# Altium footprint library Connector Footprints.PcbLib: 89 footprints (part 3 of 6)
Each footprint in its own frame and in the unit in brackets; x right, y up, seen from the top. Pads: shape width x height; smd on the part's side, far side on the other; paste and mask are expansions set on the pad; w line width, h text height; cw(c..) or ccw(c..) is an arc to the next point about the centre after c.
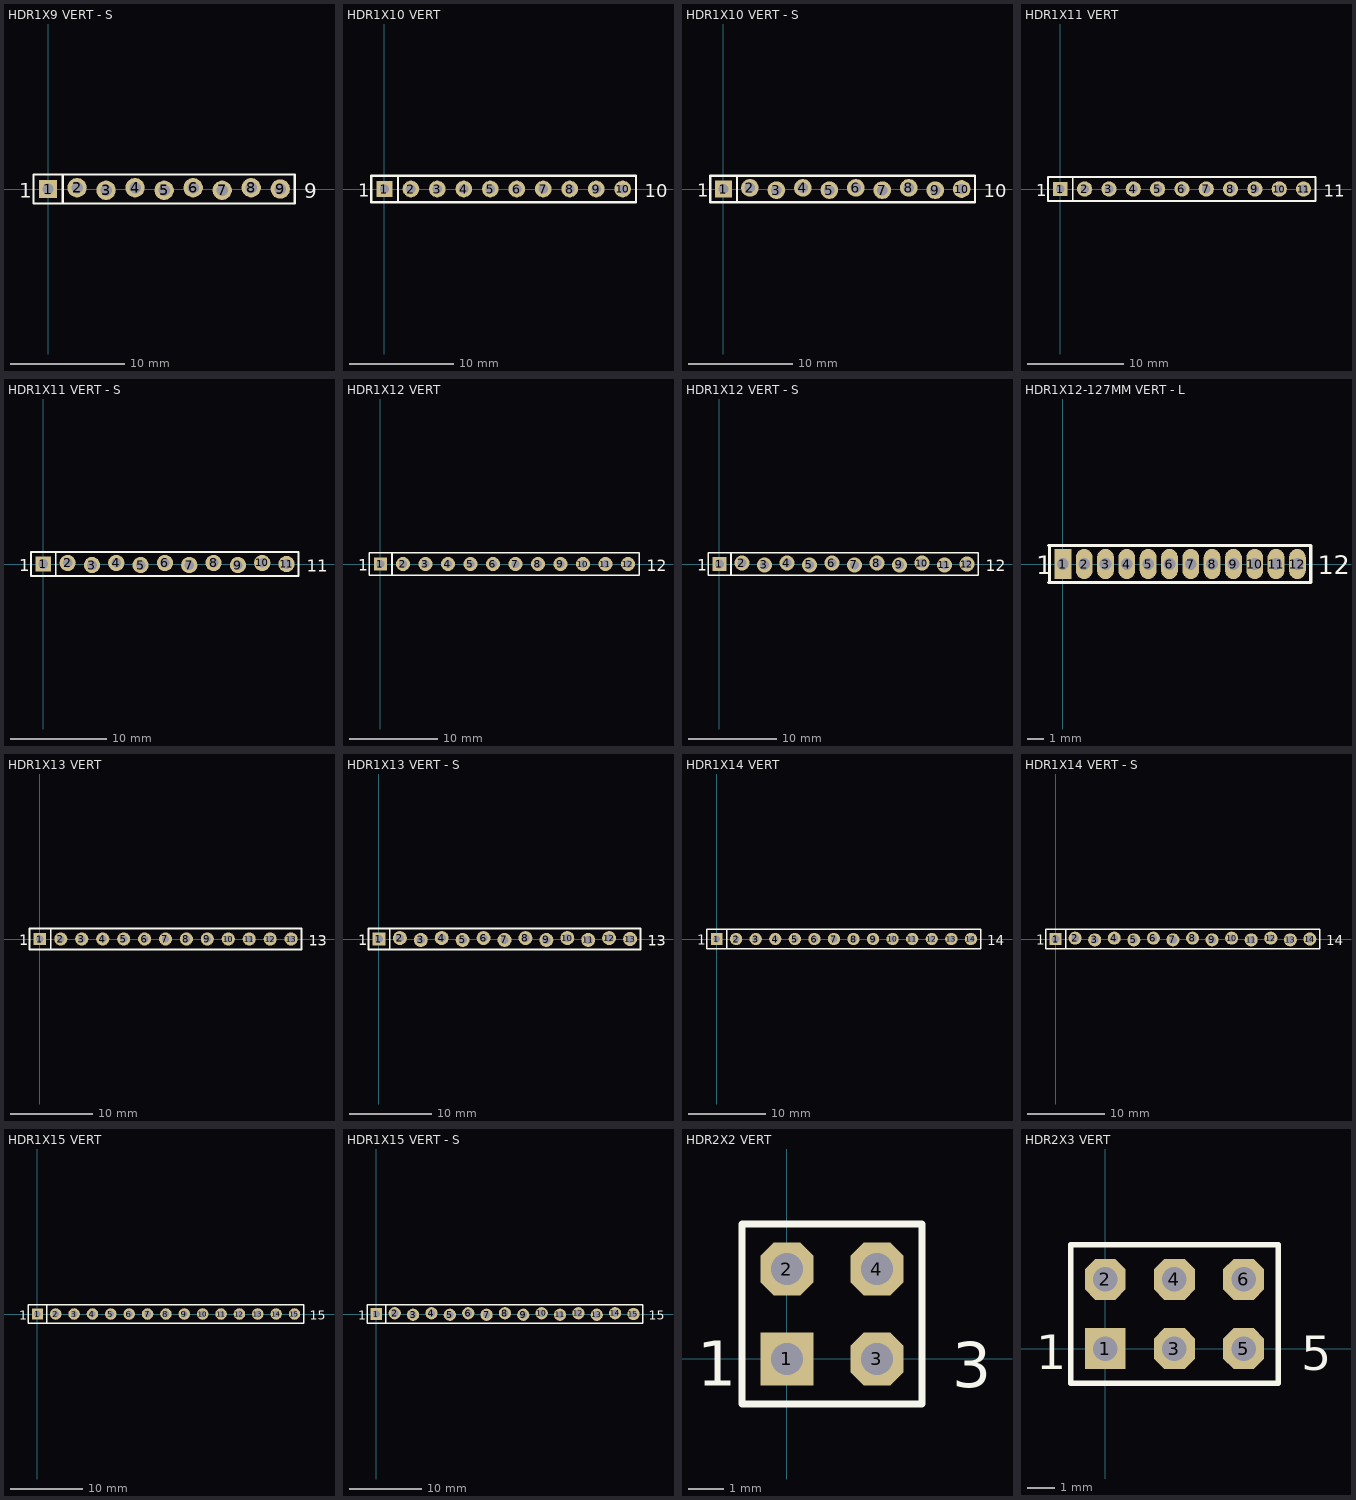
[diagram p2: the footprints below, top view; thin cyan lines are the x and y axes]

## HDR1X9 VERT - S [mm] "Connector; Header; 9 Position; Vertical Mount"
pads (9):
  rect 1.6x1.6 hole 1: 1(0,0)
  round 1.7 hole 1: 2(2.54,0.11) 3(5.08,-0.11) 4(7.62,0.11) 5(10.16,-0.11) 6(12.7,0.11) 7(15.24,-0.11) 8(17.78,0.11) 9(20.32,0)
Top Overlay:
  lines w0.2: 1.3,-1.27 1.3,1.27 ; -1.27,-1.27 -1.27,1.27 21.59,1.27 21.59,-1.27 -1.27,-1.27
  text "9" at 22.44,-0.8 h1.27
  text "1" at -2.54,-0.762 h1.27

## HDR1X10 VERT [mm] "Connector; Header; 10 Position; Vertical Mount"
pads (10):
  rect 1.5x1.5 hole 0.9: 1(0,0)
  round 1.6 hole 0.9: 2(2.54,0) 3(5.08,0) 4(7.62,0) 5(10.16,0) 6(12.7,0) 7(15.24,0) 8(17.78,0) 9(20.32,0) 10(22.86,0)
Top Overlay:
  lines w0.2: 1.3,-1.27 1.3,1.27 ; -1.27,-1.27 24.13,-1.27 24.13,1.27 -1.27,1.27 -1.27,-1.27
  text "1" at -2.54,-0.762 h1.27
  text "10" at 24.98,-0.8 h1.27

## HDR1X10 VERT - S [mm] "Connector; Header; 10 Position; Vertical Mount"
pads (10):
  rect 1.6x1.6 hole 1: 1(0,0)
  round 1.7 hole 1: 2(2.54,0.11) 3(5.08,-0.11) 4(7.62,0.11) 5(10.16,-0.11) 6(12.7,0.11) 7(15.24,-0.11) 8(17.78,0.11) 9(20.32,-0.11) 10(22.86,0)
Top Overlay:
  lines w0.2: 1.3,-1.27 1.3,1.27 ; -1.27,-1.27 -1.27,1.27 24.13,1.27 24.13,-1.27 -1.27,-1.27
  text "10" at 24.98,-0.8 h1.27
  text "1" at -2.54,-0.762 h1.27

## HDR1X11 VERT [mm] "Connector; Header; 11 Position; Vertical Mount"
pads (11):
  rect 1.5x1.5 hole 0.9: 1(0,0)
  round 1.6 hole 0.9: 2(2.54,0) 3(5.08,0) 4(7.62,0) 5(10.16,0) 6(12.7,0) 7(15.24,0) 8(17.78,0) 9(20.32,0) 10(22.86,0) 11(25.4,0)
Top Overlay:
  lines w0.2: 1.3,-1.27 1.3,1.27 ; -1.27,-1.27 26.67,-1.27 26.67,1.27 -1.27,1.27 -1.27,-1.27
  text "1" at -2.54,-0.762 h1.27
  text "11" at 27.52,-0.8 h1.27

## HDR1X11 VERT - S [mm] "Connector; Header; 11 Position; Vertical Mount"
pads (11):
  rect 1.6x1.6 hole 1: 1(0,0)
  round 1.7 hole 1: 2(2.54,0.11) 3(5.08,-0.11) 4(7.62,0.11) 5(10.16,-0.11) 6(12.7,0.11) 7(15.24,-0.11) 8(17.78,0.11) 9(20.32,-0.11) 10(22.86,0.11) 11(25.4,0)
Top Overlay:
  lines w0.2: 1.3,-1.27 1.3,1.27 ; -1.27,-1.27 26.67,-1.27 26.67,1.27 -1.27,1.27 -1.27,-1.27
  text "1" at -2.54,-0.762 h1.27
  text "11" at 27.52,-0.8 h1.27

## HDR1X12 VERT [mm] "Connector; Header; 12 Position; Vertical Mount"
pads (12):
  rect 1.5x1.5 hole 0.9: 1(0,0)
  round 1.6 hole 0.9: 2(2.54,0) 3(5.08,0) 4(7.62,0) 5(10.16,0) 6(12.7,0) 7(15.24,0) 8(17.78,0) 9(20.32,0) 10(22.86,0) 11(25.4,0) 12(27.94,0)
Top Overlay:
  lines w0.2: 1.3,-1.27 1.3,1.27 ; -1.27,-1.27 -1.27,1.27 29.21,1.27 29.21,-1.27 -1.27,-1.27
  text "12" at 30.06,-0.8 h1.27
  text "1" at -2.54,-0.762 h1.27

## HDR1X12 VERT - S [mm] "Connector; Header; 12 Position; Vertical Mount"
pads (12):
  rect 1.6x1.6 hole 1: 1(0,0)
  round 1.7 hole 1: 2(2.54,0.11) 3(5.08,-0.11) 4(7.62,0.11) 5(10.16,-0.11) 6(12.7,0.11) 7(15.24,-0.11) 8(17.78,0.11) 9(20.32,-0.11) 10(22.86,0.11) 11(25.4,-0.11) 12(27.94,0)
Top Overlay:
  lines w0.2: 1.3,-1.27 1.3,1.27 ; -1.27,-1.27 29.21,-1.27 29.21,1.27 -1.27,1.27 -1.27,-1.27
  text "1" at -2.54,-0.762 h1.27
  text "12" at 30.06,-0.8 h1.27

## HDR1X12-127MM VERT - L [mm] "Connector; Header; 12 Position; 1.27mm Pitch;Vertical Mount"
pads (12):
  rect 1x1.8 hole 0.7: 1(0,0)
  oval 1x1.8 hole 0.7: 2(1.27,0) 3(2.54,0) 4(3.81,0) 5(5.08,0) 6(6.35,0) 7(7.62,0) 8(8.89,0) 9(10.16,0) 10(11.43,0) 11(12.7,0) 12(13.97,0)
Top Overlay:
  lines w0.2: -0.83,-1.1 14.77,-1.1 14.77,1.1 -0.83,1.1 ; -0.8,-1.1 -0.8,1.1
  text "1" at -1.6,-0.6 h1.1
  text "12" at 15.17,-0.6 h1.1

## HDR1X13 VERT [mm] "Connector; Header; 13 Position; Vertical Mount"
pads (13):
  rect 1.5x1.5 hole 0.9: 1(0,0)
  round 1.6 hole 0.9: 2(2.54,0) 3(5.08,0) 4(7.62,0) 5(10.16,0) 6(12.7,0) 7(15.24,0) 8(17.78,0) 9(20.32,0) 10(22.86,0) 11(25.4,0) 12(27.94,0) 13(30.48,0)
Top Overlay:
  lines w0.2: 1.3,-1.27 1.3,1.27 ; -1.27,-1.27 -1.27,1.27 31.75,1.27 31.75,-1.27 -1.27,-1.27
  text "13" at 32.6,-0.8 h1.27
  text "1" at -2.54,-0.762 h1.27

## HDR1X13 VERT - S [mm] "Connector; Header; 13 Position; Vertical Mount"
pads (13):
  rect 1.6x1.6 hole 1: 1(0,0)
  round 1.7 hole 1: 2(2.54,0.11) 3(5.08,-0.11) 4(7.62,0.11) 5(10.16,-0.11) 6(12.7,0.11) 7(15.24,-0.11) 8(17.78,0.11) 9(20.32,-0.11) 10(22.86,0.11) 11(25.4,-0.11) 12(27.94,0.11) 13(30.48,0)
Top Overlay:
  lines w0.2: 1.3,-1.27 1.3,1.27 ; -1.27,-1.27 -1.27,1.27 31.75,1.27 31.75,-1.27 -1.27,-1.27
  text "13" at 32.6,-0.8 h1.27
  text "1" at -2.54,-0.762 h1.27

## HDR1X14 VERT [mm] "Connector; Header; 14 Position; Vertical Mount"
pads (14):
  rect 1.5x1.5 hole 0.9: 1(0,0)
  round 1.6 hole 0.9: 2(2.54,0) 3(5.08,0) 4(7.62,0) 5(10.16,0) 6(12.7,0) 7(15.24,0) 8(17.78,0) 9(20.32,0) 10(22.86,0) 11(25.4,0) 12(27.94,0) 13(30.48,0) 14(33.02,0)
Top Overlay:
  lines w0.2: 1.3,-1.27 1.3,1.27 ; -1.27,-1.27 34.29,-1.27 34.29,1.27 -1.27,1.27 -1.27,-1.27
  text "1" at -2.54,-0.762 h1.27
  text "14" at 35.14,-0.8 h1.27

## HDR1X14 VERT - S [mm] "Connector; Header; 14 Position; Vertical Mount"
pads (14):
  rect 1.6x1.6 hole 1: 1(0,0)
  round 1.7 hole 1: 2(2.54,0.11) 3(5.08,-0.11) 4(7.62,0.11) 5(10.16,-0.11) 6(12.7,0.11) 7(15.24,-0.11) 8(17.78,0.11) 9(20.32,-0.11) 10(22.86,0.11) 11(25.4,-0.11) 12(27.94,0.11) 13(30.48,-0.11) 14(33.02,0)
Top Overlay:
  lines w0.2: 1.3,-1.27 1.3,1.27 ; -1.27,-1.27 -1.27,1.27 34.29,1.27 34.29,-1.27 -1.27,-1.27
  text "14" at 35.14,-0.8 h1.27
  text "1" at -2.54,-0.762 h1.27

## HDR1X15 VERT [mm] "Connector; Header; 15 Position; Vertical Mount"
pads (15):
  rect 1.5x1.5 hole 0.9: 1(0,0)
  round 1.6 hole 0.9: 2(2.54,0) 3(5.08,0) 4(7.62,0) 5(10.16,0) 6(12.7,0) 7(15.24,0) 8(17.78,0) 9(20.32,0) 10(22.86,0) 11(25.4,0) 12(27.94,0) 13(30.48,0) 14(33.02,0) 15(35.56,0)
Top Overlay:
  lines w0.2: 1.3,-1.27 1.3,1.27 ; -1.27,-1.27 -1.27,1.27 36.83,1.27 36.83,-1.27 -1.27,-1.27
  text "1" at -2.54,-0.762 h1.27
  text "15" at 37.68,-0.8 h1.27

## HDR1X15 VERT - S [mm] "Connector; Header; 15 Position; Vertical Mount"
pads (15):
  rect 1.6x1.6 hole 1: 1(0,0)
  round 1.7 hole 1: 2(2.54,0.11) 3(5.08,-0.11) 4(7.62,0.11) 5(10.16,-0.11) 6(12.7,0.11) 7(15.24,-0.11) 8(17.78,0.11) 9(20.32,-0.11) 10(22.86,0.11) 11(25.4,-0.11) 12(27.94,0.11) 13(30.48,-0.11) 14(33.02,0.11) 15(35.56,0)
Top Overlay:
  lines w0.2: 1.3,-1.27 1.3,1.27 ; -1.27,-1.27 36.83,-1.27 36.83,1.27 -1.27,1.27 -1.27,-1.27
  text "15" at 37.68,-0.8 h1.27
  text "1" at -2.54,-0.762 h1.27

## HDR2X2 VERT [mm] "Connector; Header; 2x2 Position, Vertical Mount"
pads (4):
  rect 1.5x1.5 hole 0.9: 1(0,0)
  oct 1.5x1.5 hole 0.9: 2(0,2.54) 3(2.54,0) 4(2.54,2.54)
Top Overlay:
  lines w0.2: -1.27,-1.27 -1.27,3.81 3.81,3.81 3.81,-1.27 -1.27,-1.27
  text "1" at -2.54,-0.762 h1.27
  text "3" at 4.66,-0.8 h1.27

## HDR2X3 VERT [mm] "Connector; Header; 2x3 Position, Vertical Mount"
pads (6):
  rect 1.5x1.5 hole 0.9: 1(0,0)
  oct 1.5x1.5 hole 0.9: 2(0,2.54) 3(2.54,0) 4(2.54,2.54) 5(5.08,0) 6(5.08,2.54)
Top Overlay:
  lines w0.2: 1.482,-1.27 6.35,-1.27 ; 6.35,-1.27 -1.27,-1.27 -1.27,3.81 6.35,3.81 6.35,-1.27
  text "1" at -2.54,-0.762 h1.27
  text "5" at 7.2,-0.8 h1.27
3D body "61300621121.stp": height 8.77, standoff -2.77, extent -1.26,-1.27 6.36,3.81